# EAGLE library part MPC100 (library ic)
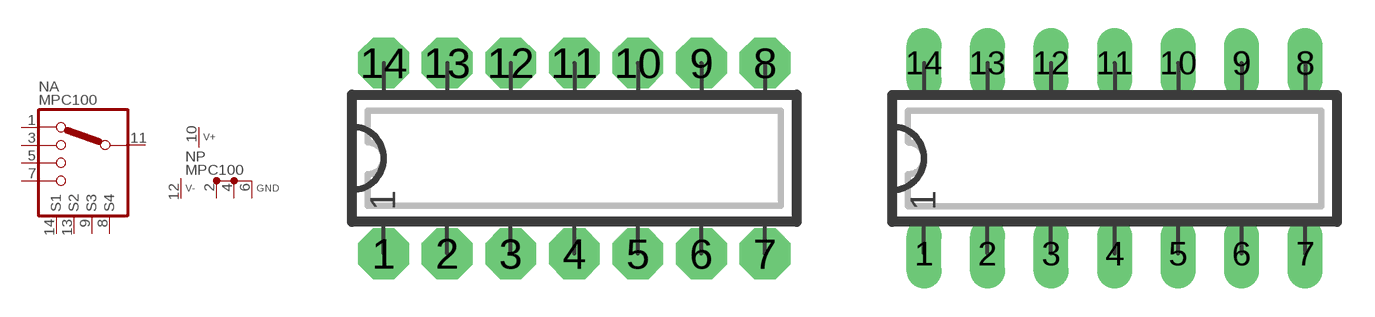
[diagram p21: symbol with the pads of DIP14N; footprints DIP14N, DIP14L]

Designator prefix N; gates A=MPC100 P=V_MPC100

## MPC100N  [DIP14N]
1  A:IN1  in
2  P:GND  pwr
3  A:IN2  in
4  P:GND  pwr
5  A:IN3  in
6  P:GND  pwr
7  A:IN4  in
8  A:S4  in
9  A:S3  in
10  P:V+  pwr
11  A:OUT  out
12  P:V-  pwr
13  A:S2  in
14  A:S1  in

## MPC100  [DIP14L]
Pads as for DIP14N

## MPC100L  [DIP14L]
Pads as for DIP14N

## MPC100R  [DIP14R]
Pads as for DIP14N

## Footprint DIP14N (pad centres in mm)
DIP-14 Standard IC package, 14 pins
drill 0.813 pad 2.032 octagon: 1 -7.62,-3.81; 2 -5.08,-3.81; 3 -2.54,-3.81; 4 0,-3.81; 5 2.54,-3.81; 6 5.08,-3.81; 7 7.62,-3.81; 8 7.62,3.81; 9 5.08,3.81; 10 2.54,3.81; 11 0,3.81; 12 -2.54,3.81; 13 -5.08,3.81; 14 -7.62,3.81

## Footprint DIP14L (pad centres in mm)
DIP-14, long pads Standard IC package, 14 pins
drill 0.813 pad 1.397 long: 1 -7.62,-3.81; 2 -5.08,-3.81; 3 -2.54,-3.81; 4 0,-3.81; 5 2.54,-3.81; 6 5.08,-3.81; 7 7.62,-3.81; 8 7.62,3.81; 9 5.08,3.81; 10 2.54,3.81; 11 0,3.81; 12 -2.54,3.81; 13 -5.08,3.81; 14 -7.62,3.81

## Footprint DIP14R (pad centres in mm)
DIP-14, reduced pads Standard IC package, 14 pins
drill 0.813 pad 1.397 square: 1 -7.62,-3.81; 2 -5.08,-3.81; 3 -2.54,-3.81; 4 0,-3.81; 5 2.54,-3.81; 6 5.08,-3.81; 7 7.62,-3.81; 8 7.62,3.81; 9 5.08,3.81; 10 2.54,3.81; 11 0,3.81; 12 -2.54,3.81; 13 -5.08,3.81; 14 -7.62,3.81